# EAGLE library part QT1070 (library QT1070)
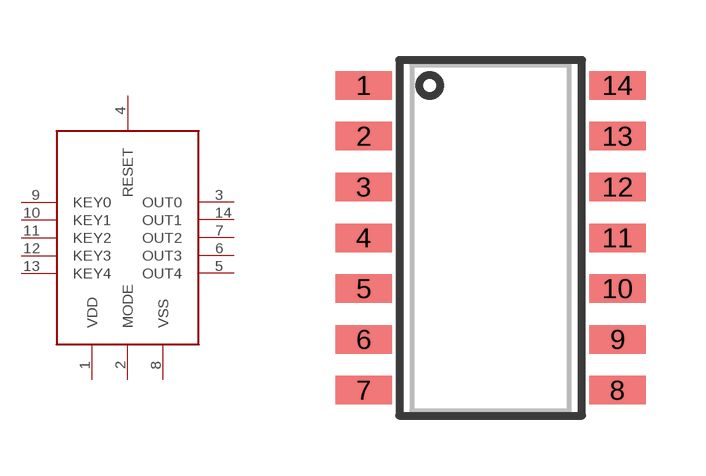
[diagram p0: symbol with the pads of QT1070; footprint QT1070]

Designator prefix -

## QT1070  [QT1070]
1  VDD
2  MODE
3  OUT0  out
4  RESET
5  OUT4  out
6  OUT3  out
7  OUT2  out
8  VSS
9  KEY0  in
10  KEY1  in
11  KEY2  in
12  KEY3  in
13  KEY4  in
14  OUT1  out

## Footprint QT1070 (pad centres in mm)
smd 1.422 x 0.711: 1 -3.175,3.81; 2 -3.175,2.54; 3 -3.175,1.27; 4 -3.175,0; 5 -3.175,-1.27; 6 -3.175,-2.54; 7 -3.175,-3.81; 8 3.175,-3.81; 9 3.175,-2.54; 10 3.175,-1.27; 11 3.175,0; 12 3.175,1.27; 13 3.175,2.54; 14 3.175,3.81